# Altium footprint library VSONP-8.PcbLib: 1 footprints
Each footprint in its own frame and in the unit in brackets; x right, y up, seen from the top. Pads: shape width x height; smd on the part's side, far side on the other; paste and mask are expansions set on the pad; w line width, h text height; cw(c..) or ccw(c..) is an arc to the next point about the centre after c.
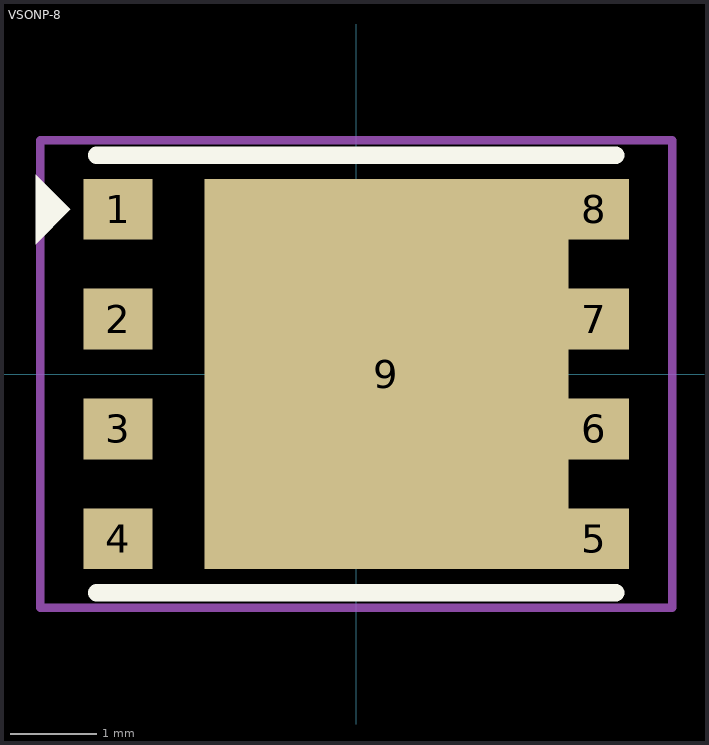
[diagram p0: the footprint, top view; thin cyan lines are the x and y axes]

## VSONP-8 [mm]
pads (9):
  rect 0.8x0.7 smd paste-1: 1(-2.75,1.905) 2(-2.75,0.635) 3(-2.75,-0.635) 4(-2.75,-1.905) 5(2.75,-1.905) 6(2.75,-0.635) 7(2.75,0.635) 8(2.75,1.905)
  rect 4.2x4.51 smd paste-3: 9(0.35,0)
Top Overlay:
  region: -3.7,1.5 -3.7,2.3 -3.3,1.9
  lines w0.2: -3,-2.525 3,-2.525 ; -3,2.525 3,2.525
Top Courtyard:
  lines w0.1: -3.65,-2.7 -3.65,2.7 3.65,2.7 3.65,-2.7 -3.65,-2.7
3D body "CSD17506Q5A.STEP": height 1.1, standoff 0, extent -3,-2.45 3,2.45